# Altium schematic symbol library arrester.SchLib: 1 symbol
Pins are listed as number, name and electrical type; pins without a type are passive.

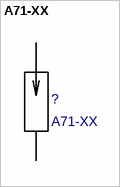
[diagram p0: symbol A71-XX]

## A71-XX
designator ?
excluded: {excluded}; Value: *
footprint A71-XX
pins: 1, 2